# EAGLE library part AR8033 (library AR8033)
Qualcomm Integrated 10/100/1000 Ethernet Transciever
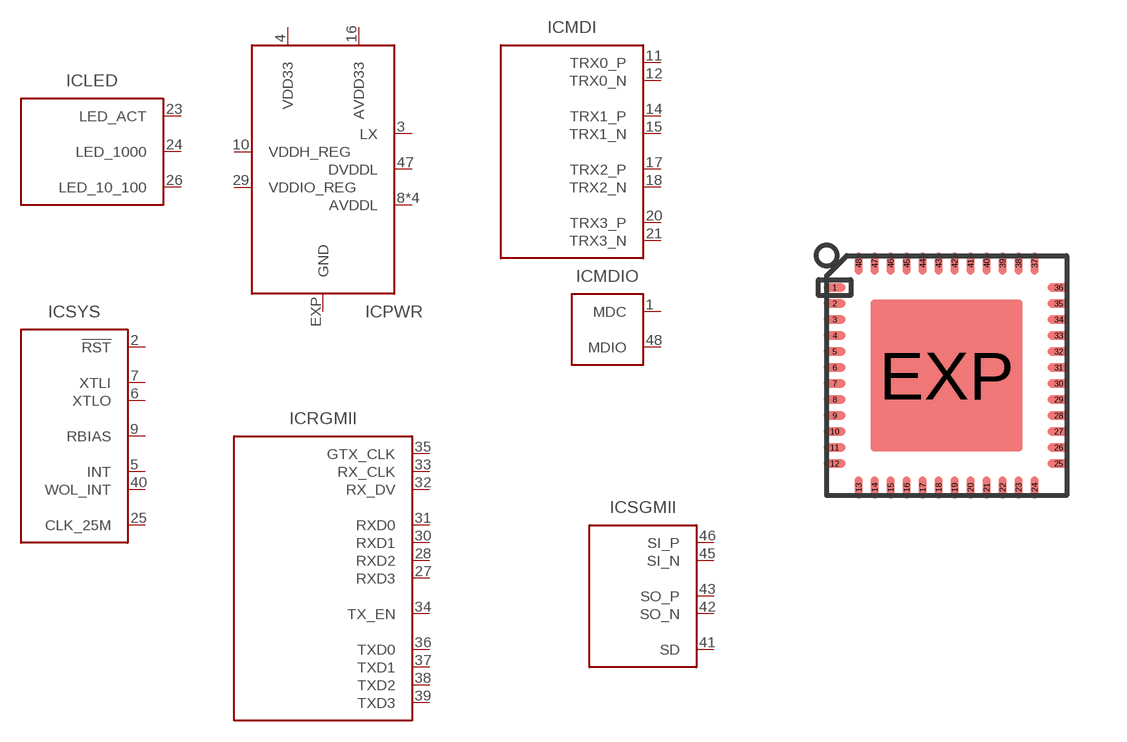
[diagram p0: symbol with the pads of QFN48-6MM; footprint QFN48-6MM]

Designator prefix IC; gates MDI=AR8033-MDI MDIO=AR8033-MDIO PWR=AR8033-PWR RGMII=AR8033-RGMII SGMII=AR8033-SGMII-SERDES SYS=AR8033-SYS LED=AR8033-LED

## AR8033  [QFN48-6MM]
1  MDIO:MDC  in
2  SYS:!RST  in
3  PWR:LX  pwr
4  PWR:VDD33  pwr
5  SYS:INT  oc
6  SYS:XTLO  out
7  SYS:XTLI  in
8  PWR:AVDDL  pwr
9  SYS:RBIAS  out
10  PWR:VDDH_REG  out
11  MDI:TRX0_P
12  MDI:TRX0_N
13  PWR:AVDDL  pwr
14  MDI:TRX1_P
15  MDI:TRX1_N
16  PWR:AVDD33  pwr
17  MDI:TRX2_P
18  MDI:TRX2_N
19  PWR:AVDDL  pwr
20  MDI:TRX3_P
21  MDI:TRX3_N
23  LED:LED_ACT
24  LED:LED_1000
25  SYS:CLK_25M  out
26  LED:LED_10_100
27  RGMII:RXD3  out
28  RGMII:RXD2  out
29  PWR:VDDIO_REG
30  RGMII:RXD1  out
31  RGMII:RXD0  out
32  RGMII:RX_DV  out
33  RGMII:RX_CLK  out
34  RGMII:TX_EN  in
35  RGMII:GTX_CLK  in
36  RGMII:TXD0  in
37  RGMII:TXD1  in
38  RGMII:TXD2  in
39  RGMII:TXD3  in
40  SYS:WOL_INT  oc
41  SGMII:SD  in
42  SGMII:SO_N  out
43  SGMII:SO_P  out
44  PWR:AVDDL  pwr
45  SGMII:SI_N  in
46  SGMII:SI_P  in
47  PWR:DVDDL  pwr
48  MDIO:MDIO  oc
EXP  PWR:GND  pwr

## Footprint QFN48-6MM (pad centres in mm)
48-pin QFN 7 x 7 mm LF48 48 Quad Flat Package No Leads Source: http://v4.cypress.com/cfuploads/img/products/cywusb6934.pdf
smd 0.55 x 0.2: 1 -2.8,2.2; 2 -2.8,1.8; 3 -2.8,1.4; 4 -2.8,1; 5 -2.8,0.6; 6 -2.8,0.2; 7 -2.8,-0.2; 8 -2.8,-0.6; 9 -2.8,-1; 10 -2.8,-1.4; 11 -2.8,-1.8; 12 -2.8,-2.2; 25 2.8,-2.2; 26 2.8,-1.8; 27 2.8,-1.4; 28 2.8,-1; 29 2.8,-0.6; 30 2.8,-0.2; 31 2.8,0.2; 32 2.8,0.6; 33 2.8,1; 34 2.8,1.4; 35 2.8,1.8; 36 2.8,2.2
smd 0.2 x 0.55: 13 -2.2,-2.8; 14 -1.8,-2.8; 15 -1.4,-2.8; 16 -1,-2.8; 17 -0.6,-2.8; 18 -0.2,-2.8; 19 0.2,-2.8; 20 0.6,-2.8; 21 1,-2.8; 22 1.4,-2.8; 23 1.8,-2.8; 24 2.2,-2.8; 37 2.2,2.8; 38 1.8,2.8; 39 1.4,2.8; 40 1,2.8; 41 0.6,2.8; 42 0.2,2.8; 43 -0.2,2.8; 44 -0.6,2.8; 45 -1,2.8; 46 -1.4,2.8; 47 -1.8,2.8; 48 -2.2,2.8
smd 3.8 x 3.8: EXP 0,0